# EAGLE library part MAX14921 (library MarkIIEaglelbr)
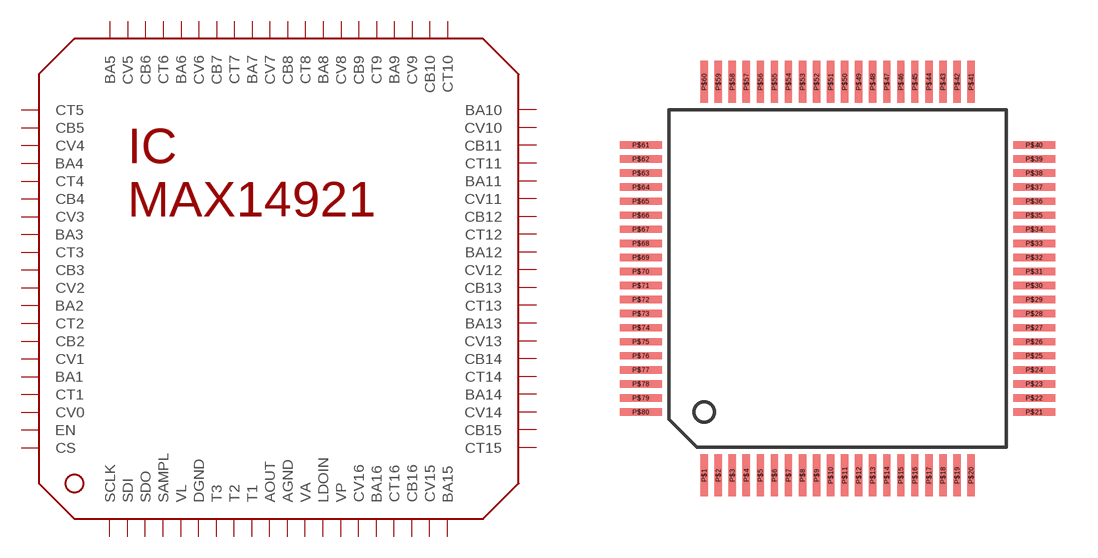
[diagram p1: symbol with the pads of 80TQFP; footprint 80TQFP]

Designator prefix IC

## MAX14921  [80TQFP]
P$1  SCLK
P$2  SDI
P$3  SDO
P$4  SAMPL
P$5  VL
P$6  DGND
P$7  T3
P$8  T2
P$9  T1
P$10  AOUT
P$11  AGND
P$12  VA
P$13  LDOIN
P$14  VP
P$15  CV16
P$16  BA16
P$17  CT16
P$18  CB16
P$19  CV15
P$20  BA15
P$21  CT15
P$22  CB15
P$23  CV14
P$24  BA14
P$25  CT14
P$26  CB14
P$27  CV13
P$28  BA13
P$29  CT13
P$30  CB13
P$31  CV12
P$32  BA12
P$33  CT12
P$34  CB12
P$35  CV11
P$36  BA11
P$37  CT11
P$38  CB11
P$39  CV10
P$40  BA10
P$41  CT10
P$42  CB10
P$43  CV9
P$44  BA9
P$45  CT9
P$46  CB9
P$47  CV8
P$48  BA8
P$49  CT8
P$50  CB8
P$51  CV7
P$52  BA7
P$53  CT7
P$54  CB7
P$55  CV6
P$56  BA6
P$57  CT6
P$58  CB6
P$59  CV5
P$60  BA5
P$61  CT5
P$62  CB5
P$63  CV4
P$64  BA4
P$65  CT4
P$66  CB4
P$67  CV3
P$68  BA3
P$69  CT3
P$70  CB3
P$71  CV2
P$72  BA2
P$73  CT2
P$74  CB2
P$75  CV1
P$76  BA1
P$77  CT1
P$78  CV0
P$79  EN
P$80  CS

## Footprint 80TQFP (pad centres in mm)
smd 0.26 x 1.5: P$1 -4.75,-7; P$2 -4.25,-7; P$3 -3.75,-7; P$4 -3.25,-7; P$5 -2.75,-7; P$6 -2.25,-7; P$7 -1.75,-7; P$8 -1.25,-7; P$9 -0.75,-7; P$10 -0.25,-7; P$11 0.25,-7; P$12 0.75,-7; P$13 1.25,-7; P$14 1.75,-7; P$15 2.25,-7; P$16 2.75,-7; P$17 3.25,-7; P$18 3.75,-7; P$19 4.25,-7; P$20 4.75,-7; P$41 4.75,7; P$42 4.25,7; P$43 3.75,7; P$44 3.25,7; P$45 2.75,7; P$46 2.25,7; P$47 1.75,7; P$48 1.25,7; P$49 0.75,7; P$50 0.25,7; P$51 -0.25,7; P$52 -0.75,7; P$53 -1.25,7; P$54 -1.75,7; P$55 -2.25,7; P$56 -2.75,7; P$57 -3.25,7; P$58 -3.75,7; P$59 -4.25,7; P$60 -4.75,7
smd 1.5 x 0.26: P$21 7,-4.75; P$22 7,-4.25; P$23 7,-3.75; P$24 7,-3.25; P$25 7,-2.75; P$26 7,-2.25; P$27 7,-1.75; P$28 7,-1.25; P$29 7,-0.75; P$30 7,-0.25; P$31 7,0.25; P$32 7,0.75; P$33 7,1.25; P$34 7,1.75; P$35 7,2.25; P$36 7,2.75; P$37 7,3.25; P$38 7,3.75; P$39 7,4.25; P$40 7,4.75; P$61 -7,4.75; P$62 -7,4.25; P$63 -7,3.75; P$64 -7,3.25; P$65 -7,2.75; P$66 -7,2.25; P$67 -7,1.75; P$68 -7,1.25; P$69 -7,0.75; P$70 -7,0.25; P$71 -7,-0.25; P$72 -7,-0.75; P$73 -7,-1.25; P$74 -7,-1.75; P$75 -7,-2.25; P$76 -7,-2.75; P$77 -7,-3.25; P$78 -7,-3.75; P$79 -7,-4.25; P$80 -7,-4.75